# Altium schematic symbol library SCH - POWER - SWITCHMODE - TI TPS65250_RHA_40.SchLib: 1 symbol
Pins are listed as number, name and electrical type; pins without a type are passive.

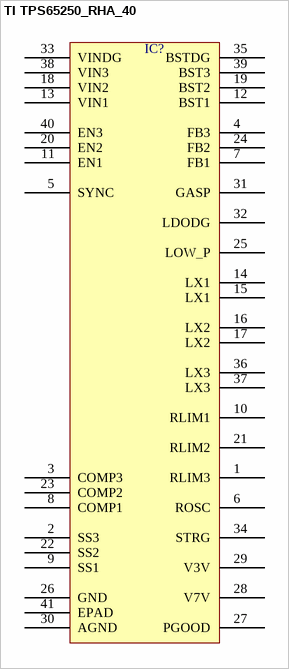
[diagram p0: symbol TI TPS65250_RHA_40]

## TI TPS65250_RHA_40
designator IC?  (value not drawn)
pins: 1 RLIM3, 2 SS3, 3 COMP3, 4 FB3, 5 SYNC, 6 ROSC, 7 FB1, 8 COMP1, 9 SS1, 10 RLIM1, 11 EN1, 12 BST1, 13 VIN1, 14 LX1, 15 LX1, 16 LX2, 17 LX2, 18 VIN2, 19 BST2, 20 EN2, 21 RLIM2, 22 SS2, 23 COMP2, 24 FB2, 25 LOW_P, 26 GND, 27 PGOOD, 28 V7V, 29 V3V, 30 AGND, 31 GASP, 32 LDODG, 33 VINDG, 34 STRG, 35 BSTDG, 36 LX3, 37 LX3, 38 VIN3, 39 BST3, 40 EN3, 41 EPAD